# EAGLE library part UMFT234XF (library FCC_parts)
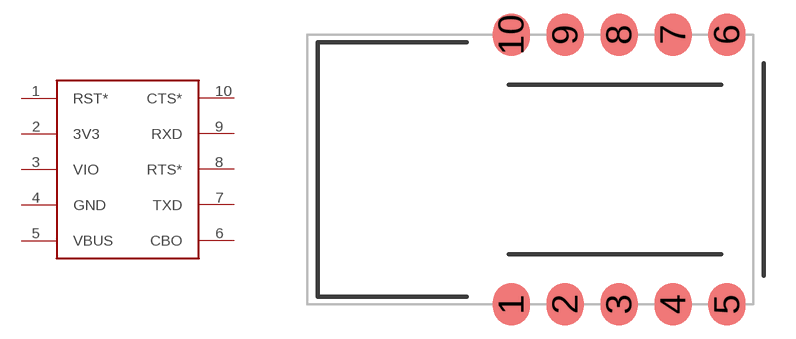
[diagram p6: symbol with the pads of UMFT234XF; footprint UMFT234XF]

Designator prefix -

## UMFT234XFUMFT234XF  [UMFT234XF]
1  RST*
2  3V3
3  VIO
4  GND
5  VBUS
6  CBO
7  TXD
8  RTS*
9  RXD
10  CTS*

## Footprint UMFT234XF (pad centres in mm)
smd 1.755 x 2.025: 1 -0.89,-6.35; 2 1.65,-6.35; 3 4.19,-6.35; 4 6.73,-6.35; 5 9.27,-6.35; 6 9.27,6.35; 7 6.73,6.35; 8 4.19,6.35; 9 1.65,6.35; 10 -0.89,6.35